# EAGLE library part WE-LLCR_ETD34 (library Wurth_Power Magnetics_WE-LLCR)
WE-LLCR Resonant Converter Characteristics Transformer for high efficiency power supply Input voltage 360–400 VDC Switching frequency 70–120 kHz Output power 150 W–250 W Testing voltage 4 kVAC Litz wire for low eddy current losses Defined leakage inductance for use without additional resonant inductor Applications Power supplies for PC, netbook, LED lighting and other power supplies High efficient resonant converters The "Value"shown for the Symbol and Packaging is Output Voltage1 Output Current1 <https://katalog.we-online.com/media/images/v2/o14804v209%20Family_WE-LLCR.jpg> Details see: https://katalog.we-online.com/en/pbs/WE-LLCR Updated by Yingchun,Shan 2019-08-27 2019(C) Wurth Elektronik
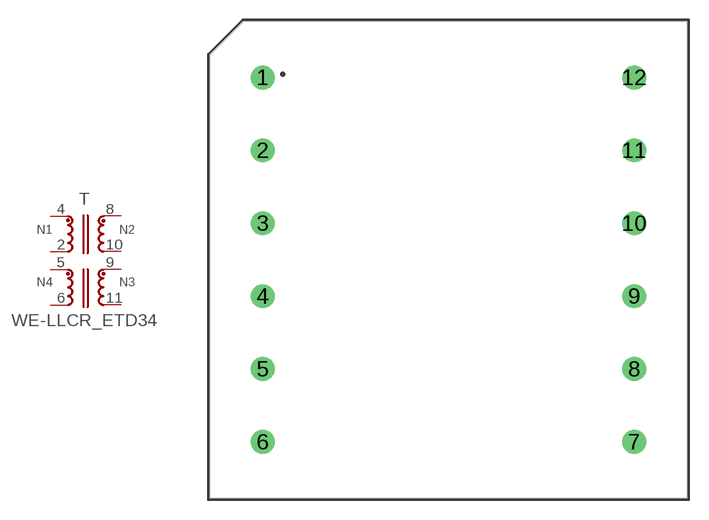
[diagram p0: symbol with the pads of WE-LLCR_ETD34; footprint WE-LLCR_ETD34]

Designator prefix T

## WE-LLCR_ETD34_760895431 (DATASHEET-URL: https://katalog.we-online.com/pbs/datasheet/760895431.pdf; FSWITCH: 70-120kHz; ISAT: 2A; L: 600uH; LSMIN: 100uH; N: 35:2:2:3; PART-NUMBER: 760895431; RDC1: 260mOhm; RDC2: 3.1mOhm; RDC3: 3.1mOhm; RDC4: 144mOhm; VALUE: 12V 12.5A; VAUX: 18V; VI: 360-400V(DC)), WE-LLCR_ETD34_760895441 (DATASHEET-URL: https://katalog.we-online.com/pbs/datasheet/760895441.pdf; FSWITCH: 70-120kHz; ISAT: 2A; L: 600uH; LSMIN: 100uH; N: 35:4:4:3; PART-NUMBER: 760895441; RDC1: 260mOhm; RDC2: 8mOhm; RDC3: 8mOhm; RDC4: 144mOhm; VALUE: 24V 6.2A; VAUX: 18V; VI: 360-400V(DC)), WE-LLCR_ETD34_760895451 (DATASHEET-URL: https://katalog.we-online.com/pbs/datasheet/760895451.pdf; FSWITCH: 70-120kHz; ISAT: 2A; L: 600uH; LSMIN: 100uH; N: 35:8:8:3; PART-NUMBER: 760895451; RDC1: 260mOhm; RDC2: 26.5mOhm; RDC3: 26.5mOhm; RDC4: 145mOhm; VALUE: 48V 3.1A; VAUX: 18V; VI: 360-400V(DC))  [WE-LLCR_ETD34]
2  2  pas
4  1  pas
5  3  pas
6  4  pas
8  8  pas
9  6  pas
10  7  pas
11  5  pas

## Footprint WE-LLCR_ETD34 (pad centres in mm)
WE-LLCR Resonant Converter Size ETD34 THT12 Pin
drill 1.2: 1 -14,13.75; 2 -14,8.25; 3 -14,2.75; 4 -14,-2.75; 5 -14,-8.25; 6 -14,-13.75; 7 14,-13.75; 8 14,-8.25; 9 14,-2.75; 10 14,2.75; 11 14,8.25; 12 14,13.75